# Altium footprint library futy.PcbLib: 18 footprints (part 1 of 2)
Each footprint in its own frame and in the unit in brackets; x right, y up, seen from the top. Pads: shape width x height; smd on the part's side, far side on the other; paste and mask are expansions set on the pad; w line width, h text height; cw(c..) or ccw(c..) is an arc to the next point about the centre after c.
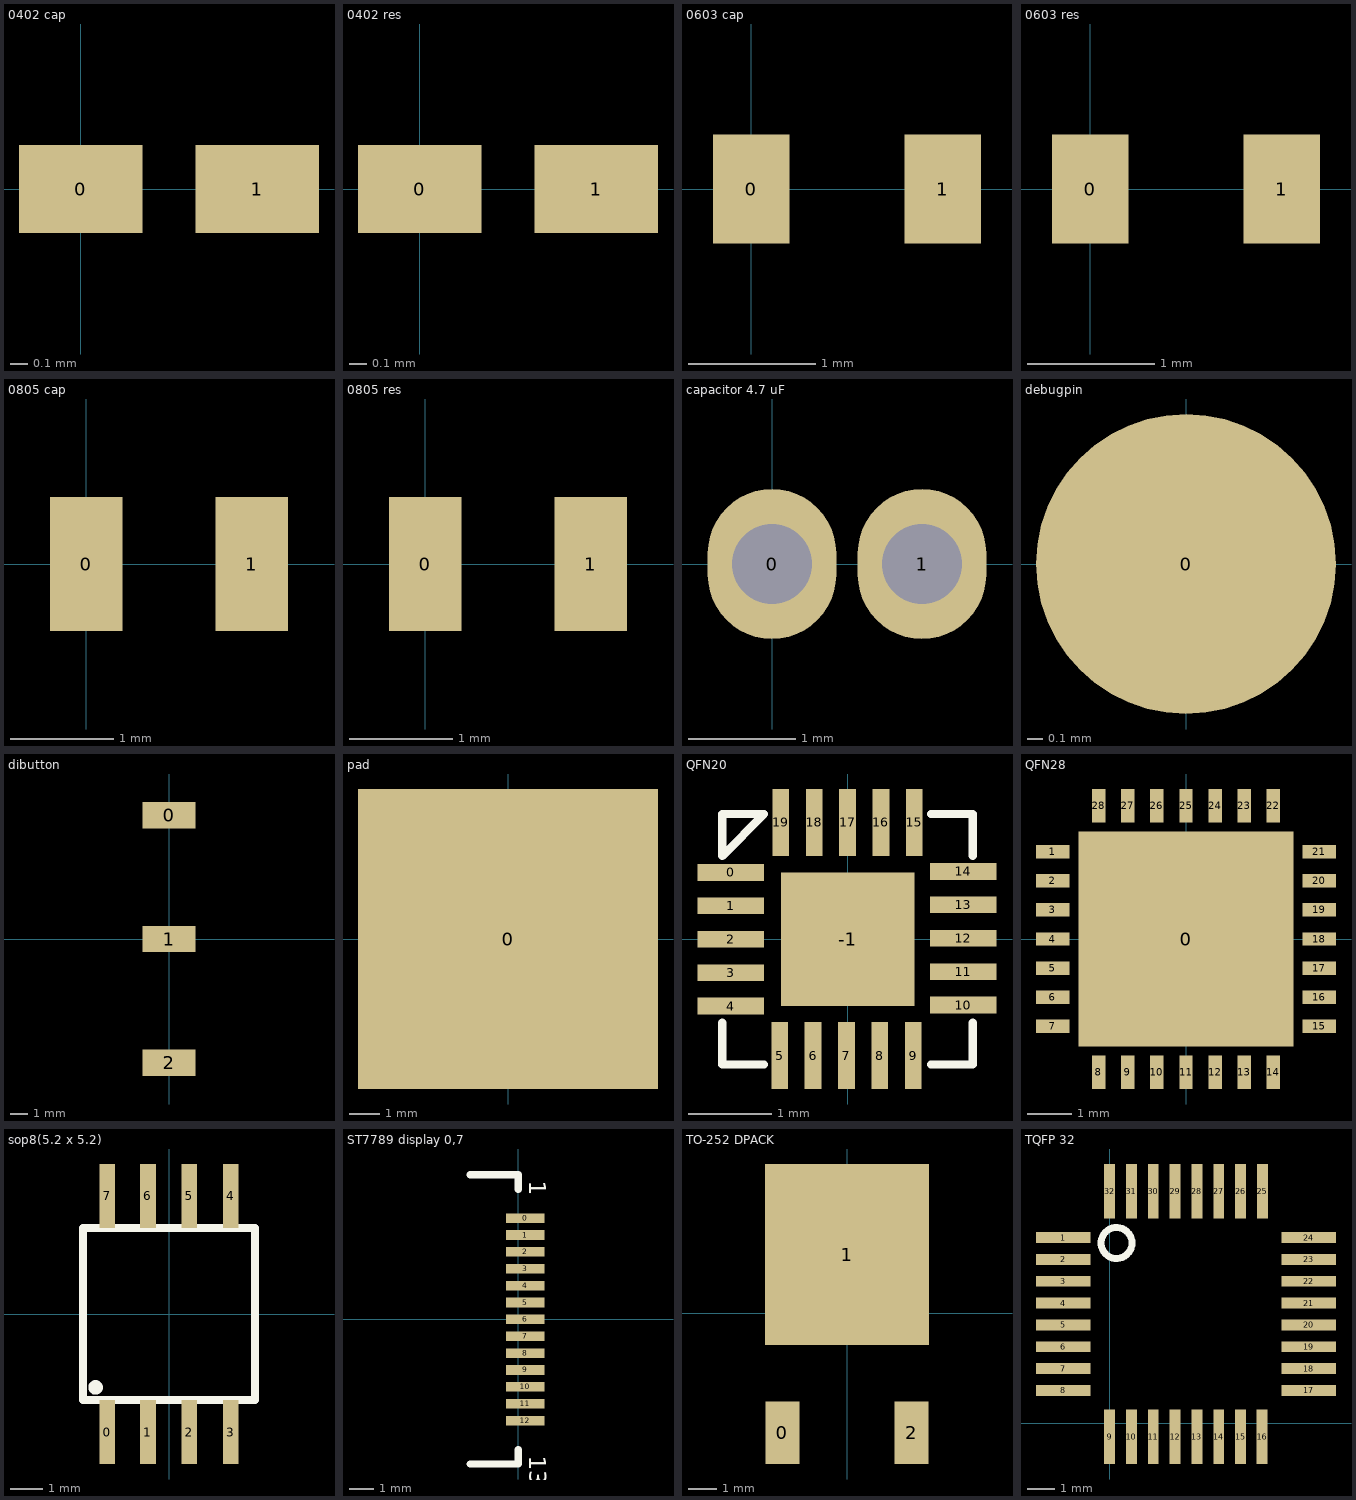
[diagram p0: the footprints below, top view; thin cyan lines are the x and y axes]

## 0402 cap [mm]
pads (2):
  rect 0.7x0.5 smd: 0(0,0) 1(1,0)
3D body "CAPC-0402-T0.55-BN.stp": height 0.55, standoff 0, extent -0.025,-0.275 1.025,0.275

## 0402 res [mm]
pads (2):
  rect 0.7x0.5 smd: 0(0,0) 1(1,0)
3D body "0402 SMD Resistor.step": height 0.2, standoff 0, extent 0,-0.3 1,0.3

## 0603 cap [mm]
pads (2):
  rect 0.6x0.85 smd: 0(0,0) 1(1.5,0)
3D body "Cap_0603.step": height 0.78, standoff -0.02, extent -0.1,-0.4 1.5,0.4

## 0603 res [mm]
pads (2):
  rect 0.6x0.85 smd: 0(0,0) 1(1.5,0)
3D body "0603 SMD Resistor.step": height 0.3, standoff 0, extent -0.05,-0.4 1.55,0.4

## 0805 cap [mm]
pads (2):
  rect 0.7x1.3 smd: 0(0,0) 1(1.6,0)
3D body "CapCeramic_Kemet_0805_2012.step": height 0.9, standoff 0, extent -0.2,-0.625 1.8,0.625

## 0805 res [mm]
pads (2):
  rect 0.7x1.3 smd: 0(0,0) 1(1.6,0)
3D body "0805 SMD Resistor.step": height 0.78, standoff 0, extent -0.2,-0.625 1.8,0.625

## capacitor 4.7 uF [mm]
pads (2):
  oval 1.2x1.4 hole 0.75: 0(0,0) 1(1.4,0)
3D body: height 8.1, standoff 0.1, extent -1.3,-2 2.7,2

## debugpin [mm]
pads (1):
  round 2 smd: 0(0,0)

## dibutton [mm]
pads (3):
  rect 3x1.5 smd: 0(0,7) 1(0,0) 2(0,-7)

## pad [mm]
pads (1):
  rect 10x10 smd: 0(0,0)

## QFN20 [mm]
pads (21):
  rect 0.8x0.2 smd: 0(-1.4,0.8) 1(-1.4,0.4) 2(-1.4,0) 3(-1.4,-0.4) 4(-1.4,-0.8) 10(1.387,-0.788) 11(1.387,-0.388) 12(1.387,0.012) 13(1.387,0.412) 14(1.387,0.812)
  rect 0.2x0.8 smd: 5(-0.813,-1.394) 6(-0.413,-1.394) 7(-0.013,-1.394) 8(0.387,-1.394) 9(0.787,-1.394) 15(0.8,1.4) 16(0.4,1.4) 17(0,1.4) 18(-0.4,1.4) 19(-0.8,1.4)
  rect 1.6x1.6 smd: -1(0,0)
Top Overlay:
  lines w0.1: -1.5,-1 -1.5,-1.5 -1,-1.5 ; 1,-1.5 1.5,-1.5 1.5,-1 ; 1,1.5 1.5,1.5 1.5,1 ; -1.5,1 -1,1.5 -1.5,1.5 -1.5,1
3D body "QFN-20.SLDPRT": height 0.6, standoff 0, extent -1.55,-1.55 1.55,1.55

## QFN28 [mm]
pads (29):
  rect 4.8x4.8 smd: 0(0,0)
  rect 0.75x0.3 smd: 1(-2.975,1.95) 2(-2.975,1.3) 3(-2.975,0.65) 4(-2.975,0) 5(-2.975,-0.65) 6(-2.975,-1.3) 7(-2.975,-1.95) 15(2.975,-1.95) 16(2.975,-1.3) 17(2.975,-0.65) 18(2.975,0) 19(2.975,0.65) 20(2.975,1.3) 21(2.975,1.95)
  rect 0.3x0.75 smd: 8(-1.95,-2.975) 9(-1.3,-2.975) 10(-0.65,-2.975) 11(0,-2.975) 12(0.65,-2.975) 13(1.3,-2.975) 14(1.95,-2.975) 22(1.95,2.975) 23(1.3,2.975) 24(0.65,2.975) 25(0,2.975) 26(-0.65,2.975) 27(-1.3,2.975) 28(-1.95,2.975)
3D body "QFN-28-1EP_6x6mm_Pitch0.65mm.step": height 0.92, standoff 0, extent -3,-3 3,3

## sop8(5.2 x 5.2) [mm]
pads (8):
  rect 0.5x2 smd: 0(-1.935,-3.7) 1(-0.665,-3.7) 2(0.635,-3.7) 3(1.935,-3.7) 4(1.935,3.7) 5(0.635,3.7) 6(-0.665,3.7) 7(-1.935,3.7)
Top Overlay:
  circle w0.254: c-2.3,-2.3 r0.1
  lines w0.254: -2.7,-2.7 2.7,-2.7 2.7,2.7 -2.7,2.7 -2.7,-2.7
3D body "SO8-L.step": height 1.7, standoff 0, extent -2.502,-3.099 2.502,3.099

## ST7789 display 0,7 [mm]
pads (13):
  rect 1.6x0.4 smd: 0(0.3,4.2) 1(0.3,3.5) 2(0.3,2.8) 3(0.3,2.1) 4(0.3,1.4) 5(0.3,0.7) 6(0.3,0) 7(0.3,-0.7) 8(0.3,-1.4) 9(0.3,-2.1) 10(0.3,-2.8) 11(0.3,-3.5) 12(0.3,-4.2)
Top Overlay:
  lines w0.3: -2,-6 0,-6 0,-5.4 ; -2,6 0,6 0,5.4
  text "1" at 0.454,5.746 h0.7
  text "13" at 0.454,-5.654 h0.7

## TO-252 DPACK [mm]
pads (3):
  rect 1.2x2.2 smd: 0(-2.28,-4.23) 2(2.28,-4.23)
  rect 5.8x6.4 smd: 1(0,2.07)
3D body "TO-252.step": height 2.3, standoff 0, extent -3.29,-4.673 3.29,5.027

## TQFP 32 [mm]
pads (32):
  rect 2x0.4 smd: 1(-1.7,6.8) 2(-1.7,6) 3(-1.7,5.2) 4(-1.7,4.4) 5(-1.7,3.6) 6(-1.7,2.8) 7(-1.7,2) 8(-1.7,1.2) 17(7.3,1.2) 18(7.3,2) 19(7.3,2.8) 20(7.3,3.6) 21(7.3,4.4) 22(7.3,5.2) 23(7.3,6) 24(7.3,6.8)
  rect 0.4x2 smd: 9(0,-0.5) 10(0.8,-0.5) 11(1.6,-0.5) 12(2.4,-0.5) 13(3.2,-0.5) 14(4,-0.5) 15(4.8,-0.5) 16(5.588,-0.5) 25(5.6,8.5) 26(4.8,8.5) 27(4,8.5) 28(3.2,8.5) 29(2.4,8.5) 30(1.6,8.5) 31(0.8,8.5) 32(0,8.5)
Top Overlay:
  circle w0.254: c0.254,6.604 r0.568
3D body "TQFP-32.STEP": height 1.1, standoff 0, extent -1.7,-0.5 7.3,8.5